# EAGLE library part LMR14006 (library My_TI)
LMR14006 SIMPLE SWITCHER® 40 V 600 mA Buck Regulator With High Efficiency Sleep Mode. • Input Voltage Range 4 V to 40 V • Output Current up to 600 mA • 1.1 MHz and 2.1 MHz Switching Frequency • High Voltage Enable Input • Over Current Protection Daasheet <http://www.ti.com/lit/ds/symlink/lmr14006.pdf>
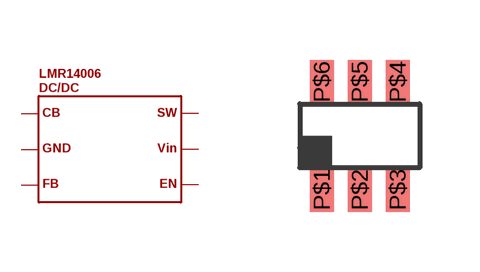
[diagram p49: symbol with the pads of TSOT-6L; footprint TSOT-6L]

Designator prefix DC/DC

## LMR14006  [TSOT-6L]
P$1  P$1
P$2  P$2
P$3  P$3
P$4  P$4
P$5  P$5
P$6  P$6

## Footprint TSOT-6L (pad centres in mm)
smd 0.6 x 1.1: P$1 -0.95,-1.35; P$2 0,-1.35; P$3 0.95,-1.35; P$4 0.95,1.35; P$5 0,1.35; P$6 -0.95,1.35